# Altium integrated library STGAP1AS.IntLib: 1 symbol
Pins are listed as number, name and electrical type; pins without a type are passive.

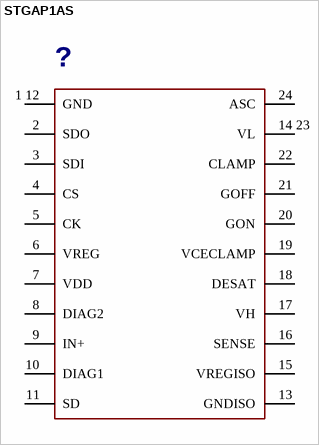
[diagram p0: symbol STGAP1AS]

## STGAP1AS
designator ?
GateName_1: G$1; SymbolName_1: STGAP1AS; LibraryName: STGAP1AS; DeviceSetName: STGAP1AS; Package: SO24W
footprint SO24W
pins: 1 12 GND, 2 SDO, 3 SDI, 4 CS, 5 CK, 6 VREG, 7 VDD, 8 DIAG2, 9 IN+, 10 DIAG1, 11 SD, 13 GNDISO, 14 23 VL, 15 VREGISO, 16 SENSE, 17 VH, 18 DESAT, 19 VCECLAMP, 20 GON, 21 GOFF, 22 CLAMP, 24 ASC